# Altium schematic symbol library Transformer_M20VN.SchLib: 1 symbol
Pins are listed as number, name and electrical type; pins without a type are passive.

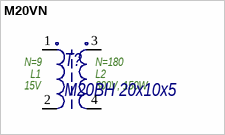
[diagram p0: symbol M20VN]

## M20VN
designator T?, comment М20ВН 20х10х5
Накопительная индуктивность для обратноходового преобразователя, L1=1.2uH, магнитопровод М20ВН, 20х10х5, первичная обмотка d1.3мм
pins: 1, 2, 3, 4
text: N=9; N=180; L1; L2; 15V; 300V, 150W